# Altium schematic symbol library Pre-DisLib.SchLib: 6 symbols
Pins are listed as number, name and electrical type; pins without a type are passive.

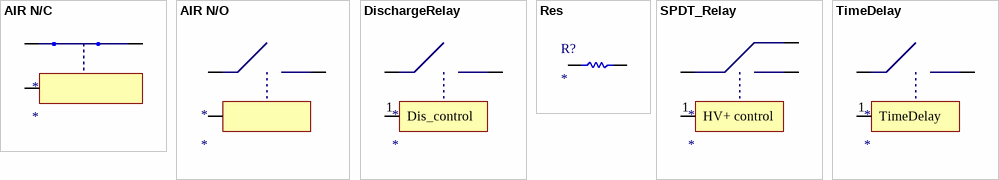
[diagram p0: symbols AIR N/C to TimeDelay]

## AIR N/C
designator *
pins: 1, 2, 3

## AIR N/O
designator *
pins: 1, 2, 3

## DischargeRelay
designator *
pins: 1 Dis_control, 2, 3

## Res
designator R?
pins: 1, 2

## SPDT_Relay
designator *
pins: 1 HV+ control, 2, 3, 3

## TimeDelay
designator *
pins: 1 TimeDelay, 2, 3